# Altium footprint library EncoderConnector.PcbLib: 1 footprints
Each footprint in its own frame and in the unit in brackets; x right, y up, seen from the top. Pads: shape width x height; smd on the part's side, far side on the other; paste and mask are expansions set on the pad; w line width, h text height; cw(c..) or ccw(c..) is an arc to the next point about the centre after c.
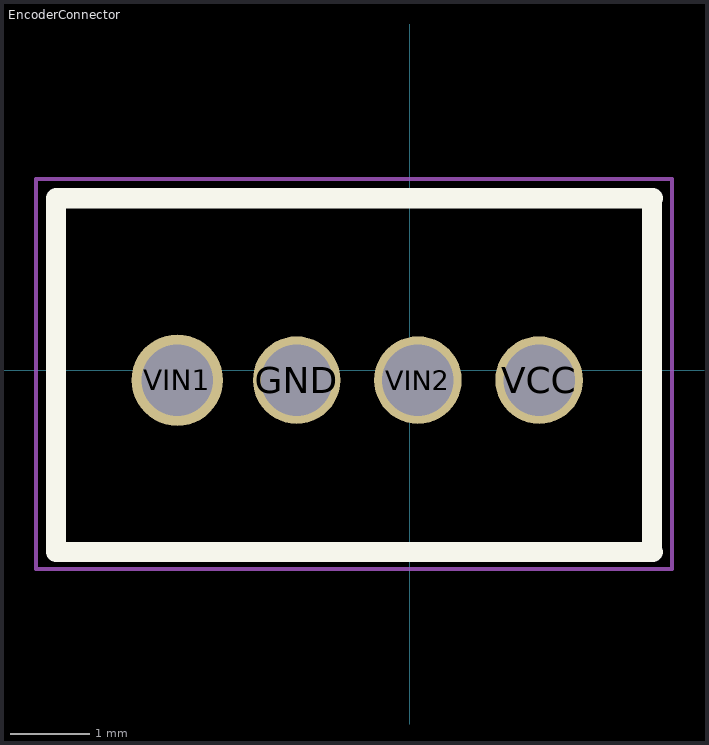
[diagram p0: the footprint, top view; thin cyan lines are the x and y axes]

## EncoderConnector [mm] "CONN HEADER R/A 4POS 1.5MM"
pads (4):
  round 1.1 hole 0.9: GND(-1.421,-0.127) VCC(1.627,-0.127) VIN2(0.103,-0.127)
  round 1.15 hole 0.9: VIN1(-2.921,-0.127)
Top Overlay:
  lines w0.254: 3.048,-2.286 3.048,2.159 ; 3.055,-2.286 -4.445,-2.286 -4.445,2.159 3.055,2.159
Mechanical 15:
  lines w0.05: -4.7,-2.5 -4.7,2.4 3.3,2.4 3.3,-2.5 -4.7,-2.5